# EAGLE library part I2C (library I2Cs)
Ｉ２Ｃバス用双方向電圧レベル変換モジュール（ＰＣＡ９３０６）
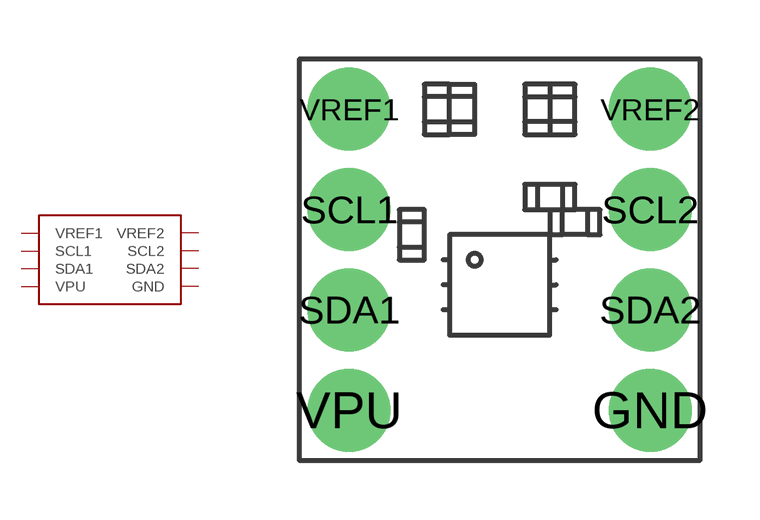
[diagram p0: symbol with the pads of I2C; footprint I2C]

Designator prefix -

## I2C  [I2C]
GND  GND
SCL1  SCL1
SCL2  SCL2
SDA1  SDA1
SDA2  SDA2
VPU  VPU
VREF1  VREF1
VREF2  VREF2

## Footprint I2C (pad centres in mm)
drill 1.4: GND 3.81,-3.81; SCL1 -3.81,1.27; SCL2 3.81,1.27; SDA1 -3.81,-1.27; SDA2 3.81,-1.27; VPU -3.81,-3.81; VREF1 -3.81,3.81; VREF2 3.81,3.81